# Altium integrated library Ind47uH.IntLib: 1 symbol
Pins are listed as number, name and electrical type; pins without a type are passive.

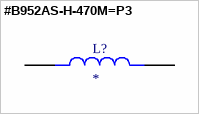
[diagram p0: symbol #B952AS-H-470M=P3]

## #B952AS-H-470M=P3
designator L?
Wire Wound Ferrite Inductor for Power Lines; MP: #B952AS-H-470M=P3; Package: None; Price: None; Value: *; Availability: Unavailable
footprint IND_#B952AS-H-470M=P3
pins: 1, 2